# EAGLE library part 6253XX20621_62531620621 (library con-wurth)
WR-BHD 2.00 mm Male SMT Box Header KIND PROPERTIES: Pitch 2 mm Gender:Male MATERIAL PROPERTIES: Insulator Material:PA9T Insulator Flammability Rating UL94 V-0 Insulator Color:Black Contact Material :Copper Alloy Contact Plating :Gold Contact Type: Stamped GENERAL INFORMATION: Operating Temperature:-40 °C up to +125 °C Compliance:RoHS Working Voltage: 250 V (AC) Withstanding Voltage:500 V (AC) Contact Resistance: 20 mΩ Insulation Resistance:1000 MΩ PACKAGING PROPERTIES Packaging :Tape and Reel with Cap <https://www.we-online.de/catalog/media/o32950v209%20Family_WR-BHD_6253xx20621.jpg> Details see: https://www.we-online.de/katalog/en/em/BHD_2_00_SMT_MALE_BOX_HEADER_6253XX20621 Updated by Yingchun,Shan 2019-11-04 2019 (C) Würth Elektronik
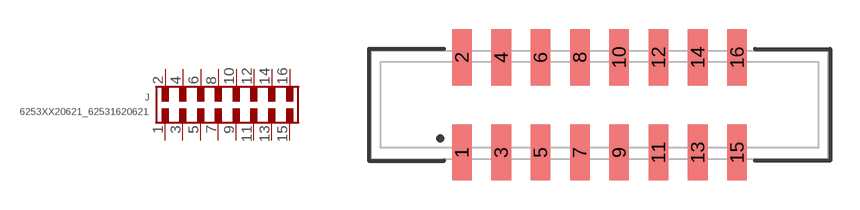
[diagram p28: symbol with the pads of 62531620621; footprint 62531620621]

Designator prefix J

## 6253XX20621_62531620621 (CONTACT-RESISTANCE: 20mOhm; DATASHEET-URL: https://www.we-online.com/redexpert/spec/62531620621?ae; GENDER: Male; IR: 2A; LENGTH: 23.25mm; MOUNT: SMT; PACKAGING: Tape and Reel with Cap; PART-NUMBER: 62531620621; PINS: 16; PITCH: 2mm; TYPE: Straight; VALUE: 62531620621; WORKING-VOLTAGE: 250V(AC))  [62531620621]
1  1  pas
2  2  pas
3  3  pas
4  4  pas
5  5  pas
6  6  pas
7  7  pas
8  8  pas
9  9  pas
10  10  pas
11  11  pas
12  12  pas
13  13  pas
14  14  pas
15  15  pas
16  16  pas

## Footprint 62531620621 (pad centres in mm)
WR-BHD 2.00 mm Male SMT Box Header,16 pins
smd 1 x 2.85: 1 -7,-2.425; 2 -7,2.425; 3 -5,-2.425; 4 -5,2.425; 5 -3,-2.425; 6 -3,2.425; 7 -1,-2.425; 8 -1,2.425; 9 1,-2.425; 10 1,2.425; 11 3,-2.425; 12 3,2.425; 13 5,-2.425; 14 5,2.425; 15 7,-2.425; 16 7,2.425